# EAGLE library part 74HC14 (library Logic)
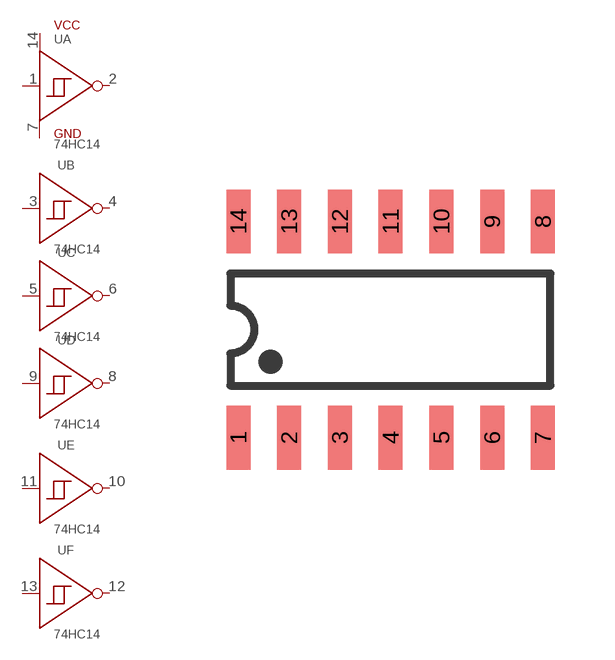
[diagram p1: symbol with the pads of SOIC14; footprint SOIC14]

Designator prefix U; gates A=SCHMITT_INVT_PWR B=SCHMITT_INVT C=SCHMITT_INVT D=SCHMITT_INVT E=SCHMITT_INVT F=SCHMITT_INVT

## 74HC14/SOIC-14  [SOIC14]
1  A:A
2  A:Y
3  B:A
4  B:Y
5  C:A
6  C:Y
7  A:GND  pwr
8  D:Y
9  D:A
10  E:Y
11  E:A
12  F:Y
13  F:A
14  A:VCC  pwr

## Footprint SOIC14 (pad centres in mm)
smd 0.6 x 1.6: 1 0,0; 2 1.27,0; 3 2.54,0; 4 3.81,0; 5 5.08,0; 6 6.35,0; 7 7.62,0; 8 7.62,5.4; 9 6.35,5.4; 10 5.08,5.4; 11 3.81,5.4; 12 2.54,5.4; 13 1.27,5.4; 14 0,5.4